# Altium schematic symbol library FPGA_Xilinx_Virtex7.SchLib: 34 symbols (part 17 of 26)
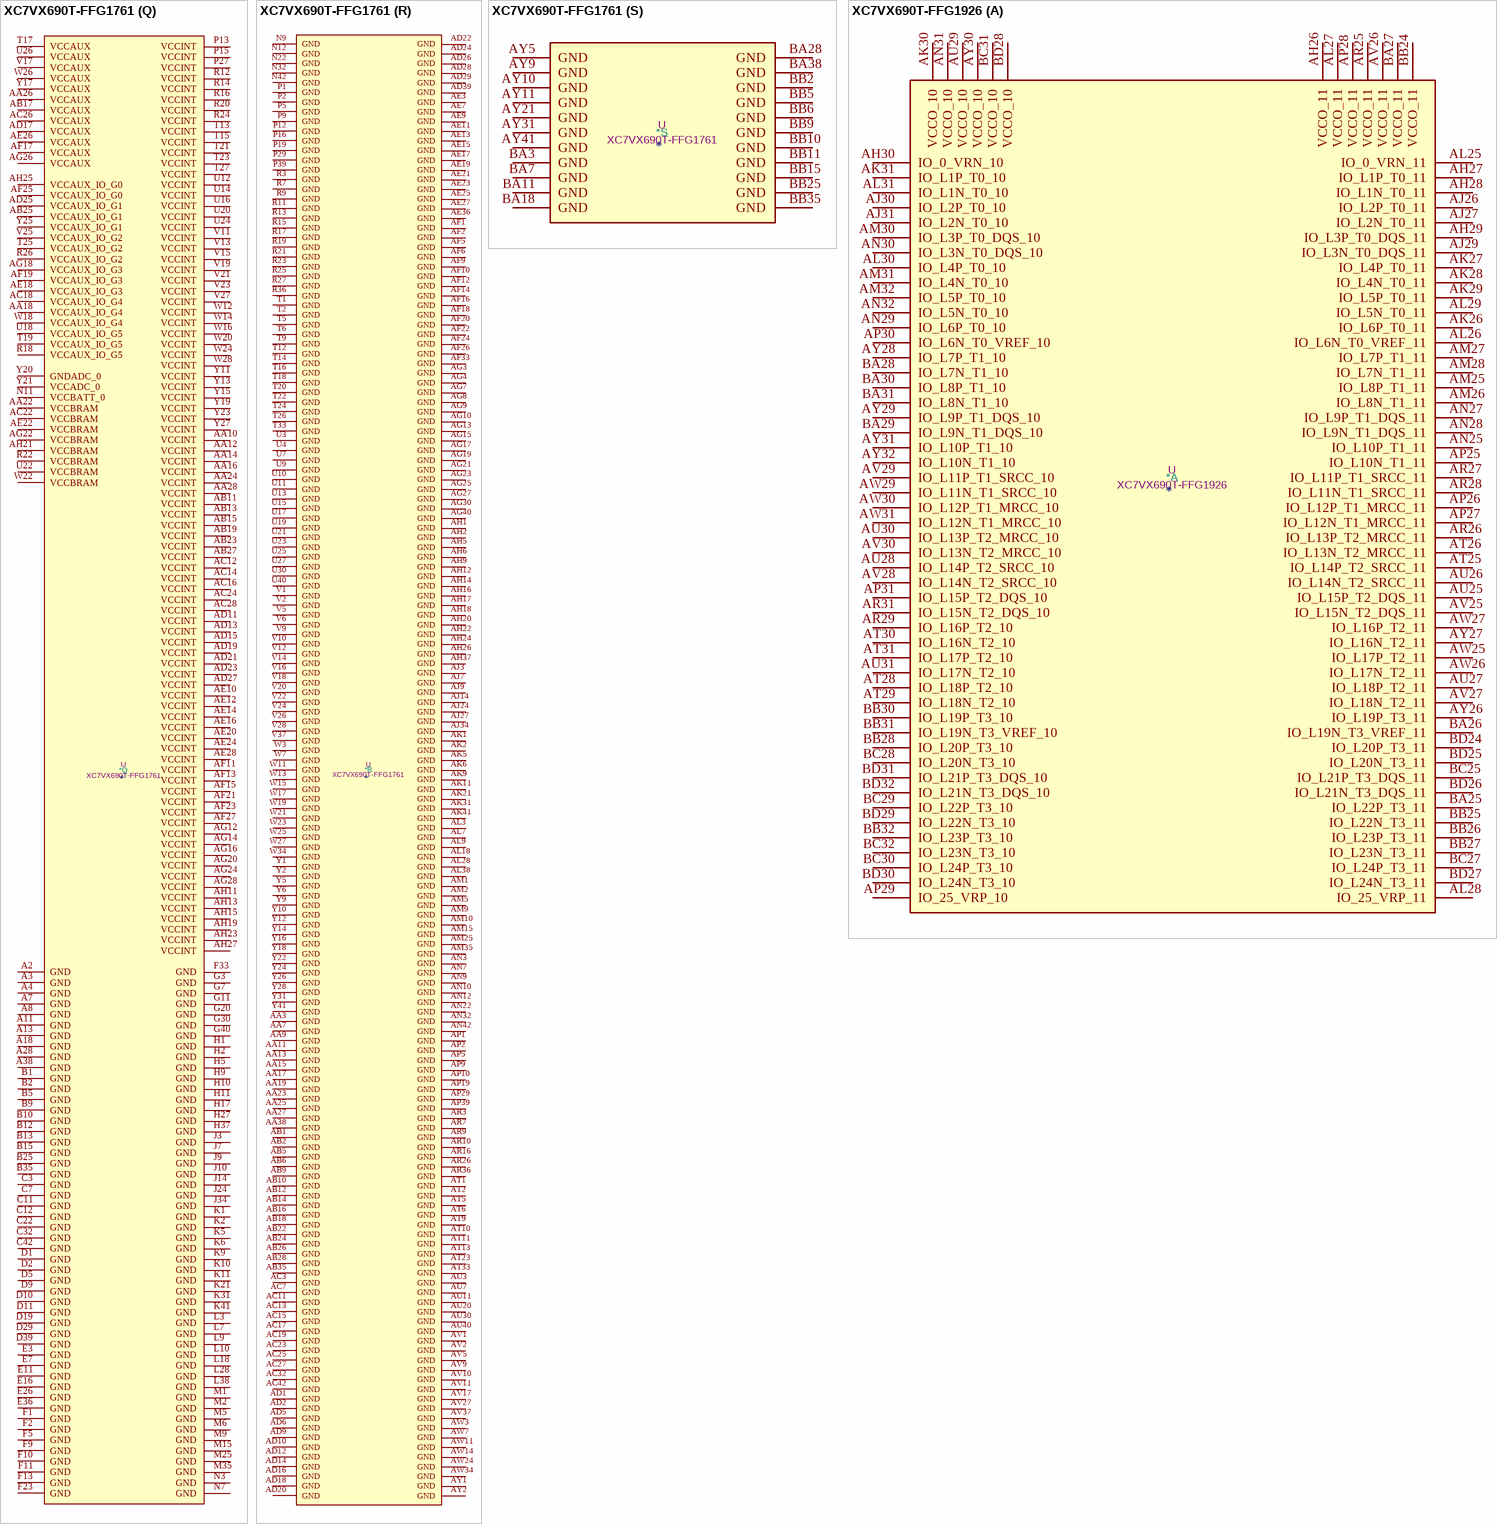
[diagram p188: symbols XC7VX690T-FFG1761 to XC7VX690T-FFG1926]

## XC7VX690T-FFG1761
designator *  value XC7VX690T-FFG1761  Reference: U
Virtex 7 XT 690 XC7VX690T-FFG1761; ki_keywords: FPGA; Description_: Virtex 7 XT 690 XC7VX690T-FFG1761
part A pins: AJ25 IO_L24P_T3_12, AJ26 IO_L24N_T3_12, AK24 IO_L22P_T3_12, AK25 IO_L22N_T3_12, AK26 VCCO_12, AK27 IO_L20P_T3_12, AL25 IO_L23P_T3_12, AL26 IO_L23N_T3_12, AL27 IO_L20N_T3_12, AM26 IO_L21P_T3_DQS_12, AM27 IO_L21N_T3_DQS_12, AM28 IO_L19P_T3_12, AM29 IO_L19N_T3_VREF_12, AN25 IO_L18P_T2_12, AN26 IO_L18N_T2_12, AN27 VCCO_12, AN28 IO_L15P_T2_DQS_12, AN29 IO_0_VRN_12, AN30 IO_L21P_T3_DQS_13, AN31 IO_L23P_T3_13, AP25 IO_L17P_T2_12, AP26 IO_25_VRP_12, AP27 IO_L14P_T2_SRCC_12, AP28 IO_L15N_T2_DQS_12, AP30 IO_L21N_T3_DQS_13, AP31 IO_L23N_T3_13, AP32 IO_L22P_T3_13, AP33 IO_L24P_T3_13, AP34 VCCO_13, AR25 IO_L17N_T2_12, AR27 IO_L13P_T2_MRCC_12, AR28 IO_L14N_T2_SRCC_12, AR29 IO_L8P_T1_12, AR30 IO_L19P_T3_13, AR31 VCCO_13, AR32 IO_L22N_T3_13, AR33 IO_L24N_T3_13, AR34 IO_L10P_T1_13, AR35 IO_0_VRN_13, AT25 IO_L16P_T2_12, AT26 IO_L16N_T2_12, AT27 IO_L13N_T2_MRCC_12, AT28 VCCO_12, AT29 IO_L8N_T1_12, AT30 IO_L19N_T3_VREF_13, AT31 IO_25_VRP_13, AT32 IO_L9P_T1_DQS_13, AT34 IO_L7P_T1_13, AT35 IO_L10N_T1_13, AT36 IO_L8P_T1_13, AU25 VCCO_12, AU26 IO_L12P_T1_MRCC_12, AU27 IO_L12N_T1_MRCC_12, AU28 IO_L11P_T1_SRCC_12, AU29 IO_L2P_T0_12, AU31 IO_L20P_T3_13, AU32 IO_L11P_T1_SRCC_13, AU33 IO_L9N_T1_DQS_13, AU34 IO_L7N_T1_13, AU35 VCCO_13, AU36 IO_L8N_T1_13, AV25 IO_L9P_T1_DQS_12, AV26 IO_L9N_T1_DQS_12, AV28 IO_L11N_T1_SRCC_12, AV29 IO_L2N_T0_12, AV30 IO_L18P_T2_13, AV31 IO_L20N_T3_13, AV32 VCCO_13, AV33 IO_L11N_T1_SRCC_13, AV34 IO_L13P_T2_MRCC_13, AV35 IO_L13N_T2_MRCC_13, AV36 IO_L2P_T0_13, AW25 IO_L7P_T1_12, AW26 IO_L7N_T1_12, AW27 IO_L10P_T1_12, AW28 IO_L10N_T1_12, AW29 VCCO_12, AW30 IO_L16P_T2_13, AW31 IO_L18N_T2_13, AW32 IO_L12P_T1_MRCC_13, AW33 IO_L12N_T1_MRCC_13, AW35 IO_L6P_T0_13, AW36 IO_L2N_T0_13, AY26 VCCO_12, AY27 IO_L1P_T0_12, AY28 IO_L1N_T0_12, AY29 IO_L6P_T0_12, AY30 IO_L16N_T2_13, AY32 IO_L14P_T2_SRCC_13, AY33 IO_L14N_T2_SRCC_13, AY34 IO_L1P_T0_13, AY35 IO_L6N_T0_VREF_13, AY36 VCCO_13, BA26 IO_L3P_T0_DQS_12, BA27 IO_L3N_T0_DQS_12, BA29 IO_L6N_T0_VREF_12, BA30 IO_L17P_T2_13, BA31 IO_L15P_T2_DQS_13, BA32 IO_L15N_T2_DQS_13, BA33 VCCO_13, BA34 IO_L3P_T0_DQS_13, BA35 IO_L1N_T0_13, BA36 IO_L4P_T0_13, BB26 IO_L5P_T0_12, BB27 IO_L5N_T0_12, BB28 IO_L4P_T0_12, BB29 IO_L4N_T0_12, BB30 VCCO_13, BB31 IO_L17N_T2_13, BB32 IO_L5P_T0_13, BB33 IO_L5N_T0_13, BB34 IO_L3N_T0_DQS_13, BB36 IO_L4N_T0_13
part B pins: AF28 VCCO_14, AF29 IO_L21P_T3_DQS_14, AF30 IO_L23P_T3_A03_D19_14, AG29 IO_L21N_T3_DQS_A06_D22_14, AG31 IO_L23N_T3_A02_D18_14, AG32 IO_25_VRP_14, AG33 IO_L7P_T1_D09_14, AH28 IO_L24P_T3_A01_D17_14, AH29 IO_L19P_T3_A10_D26_14, AH30 IO_L19N_T3_A09_D25_VREF_14, AH31 IO_L9P_T1_DQS_14, AH32 VCCO_14, AH33 IO_L7N_T1_D10_14, AH34 IO_L10P_T1_D14_14, AH35 IO_0_VRN_14, AJ28 IO_L24N_T3_A00_D16_14, AJ29 VCCO_14, AJ30 IO_L20P_T3_A08_D24_14, AJ31 IO_L9N_T1_DQS_D13_14, AJ32 IO_L13P_T2_MRCC_14, AJ33 IO_L11P_T1_SRCC_14, AJ35 IO_L10N_T1_D15_14, AJ36 IO_L2P_T0_D02_14, AJ37 IO_L2N_T0_D03_14, AK28 IO_L22P_T3_A05_D21_14, AK29 IO_L22N_T3_A04_D20_14, AK30 IO_L20N_T3_A07_D23_14, AK32 IO_L13N_T2_MRCC_14, AK33 IO_L11N_T1_SRCC_14, AK34 IO_L12P_T1_MRCC_14, AK35 IO_L8P_T1_D11_14, AK36 VCCO_14, AK37 IO_L4P_T0_D04_14, AL29 IO_L18P_T2_A12_D28_14, AL30 IO_L18N_T2_A11_D27_14, AL31 IO_L14P_T2_SRCC_14, AL32 IO_L14N_T2_SRCC_14, AL33 VCCO_14, AL34 IO_L12N_T1_MRCC_14, AL35 IO_L8N_T1_D12_14, AL36 IO_L6P_T0_FCS_B_14, AL37 IO_L4N_T0_D05_14, AM30 VCCO_14, AM31 IO_L16P_T2_CSI_B_14, AM32 IO_L16N_T2_A15_D31_14, AM33 IO_L17P_T2_A14_D30_14, AM34 IO_L15P_T2_DQS_RDWR_B_14, AM36 IO_L1P_T0_D00_MOSI_14, AM37 IO_L6N_T0_D08_VREF_14, AM38 IO_0_VRN_15, AM39 IO_L6P_T0_15, AM40 VCCO_15, AM41 IO_L2P_T0_AD8P_15, AM42 IO_L2N_T0_AD8N_15, AN33 IO_L17N_T2_A13_D29_14, AN34 IO_L15N_T2_DQS_DOUT_CSO_B_14, AN35 IO_L5P_T0_D06_14, AN36 IO_L1N_T0_D01_DIN_14, AN37 VCCO_14, AN38 IO_L1P_T0_AD0P_15, AN39 IO_L6N_T0_VREF_15, AN40 IO_L4P_T0_15, AN41 IO_L4N_T0_15, AP35 IO_L5N_T0_D07_14, AP36 IO_L3P_T0_DQS_PUDC_B_14, AP37 IO_L3N_T0_DQS_EMCCLK_14, AP38 IO_L1N_T0_AD0N_15, AP40 IO_L7P_T1_AD2P_15, AP41 IO_L8P_T1_AD10P_15, AP42 IO_L8N_T1_AD10N_15, AR37 IO_L5P_T0_AD9P_15, AR38 IO_L3P_T0_DQS_AD1P_15, AR39 IO_L3N_T0_DQS_AD1N_15, AR40 IO_L7N_T1_AD2N_15, AR41 VCCO_15, AR42 IO_L10P_T1_AD11P_15, AT37 IO_L5N_T0_AD9N_15, AT38 VCCO_15, AT39 IO_L9P_T1_DQS_AD3P_15, AT40 IO_L9N_T1_DQS_AD3N_15, AT41 IO_L20P_T3_A20_15, AT42 IO_L10N_T1_AD11N_15, AU37 IO_25_VRP_15, AU38 IO_L12P_T1_MRCC_15, AU39 IO_L11P_T1_SRCC_15, AU41 IO_L22P_T3_A17_15, AU42 IO_L20N_T3_A19_15, AV38 IO_L12N_T1_MRCC_15, AV39 IO_L11N_T1_SRCC_15, AV40 IO_L13P_T2_MRCC_15, AV41 IO_L22N_T3_A16_15, AV42 VCCO_15, AW37 IO_L15P_T2_DQS_15, AW38 IO_L17P_T2_A26_15, AW39 VCCO_15, AW40 IO_L13N_T2_MRCC_15, AW41 IO_L24P_T3_RS1_15, AW42 IO_L24N_T3_RS0_15, AY37 IO_L15N_T2_DQS_ADV_B_15, AY38 IO_L17N_T2_A25_15, AY39 IO_L14P_T2_SRCC_15, AY40 IO_L14N_T2_SRCC_15, AY42 IO_L21P_T3_DQS_15, BA37 IO_L16P_T2_A28_15, BA39 IO_L19P_T3_A22_15, BA40 IO_L19N_T3_A21_VREF_15, BA41 IO_L23P_T3_FOE_B_15, BA42 IO_L21N_T3_DQS_A18_15, BB37 IO_L16N_T2_A27_15, BB38 IO_L18P_T2_A24_15, BB39 IO_L18N_T2_A23_15, BB40 VCCO_15, BB41 IO_L23N_T3_FWE_B_15
part C pins: AA29 IO_L23P_T3_16, AA30 IO_L23N_T3_16, AA31 IO_L21P_T3_DQS_16, AA32 IO_L21N_T3_DQS_16, AA33 VCCO_16, AA34 IO_L10P_T1_16, AA35 IO_L10N_T1_16, AA36 IO_L8N_T1_16, AA37 IO_L7N_T1_16, AA39 IO_L3N_T0_DQS_17, AA40 IO_L6P_T0_17, AA41 IO_L6N_T0_VREF_17, AA42 IO_L4N_T0_17, AB29 IO_L24P_T3_16, AB30 VCCO_16, AB31 IO_L11P_T1_SRCC_16, AB32 IO_L11N_T1_SRCC_16, AB33 IO_L12P_T1_MRCC_16, AB34 IO_25_VRP_16, AB36 IO_L9P_T1_DQS_16, AB37 IO_L9N_T1_DQS_16, AB38 IO_L5P_T0_17, AB39 IO_L5N_T0_17, AB40 VCCO_17, AB41 IO_L1P_T0_17, AB42 IO_L1N_T0_17, AC29 IO_L24N_T3_16, AC30 IO_L22P_T3_16, AC31 IO_L20P_T3_16, AC33 IO_L12N_T1_MRCC_16, AC34 IO_L14P_T2_SRCC_16, AC35 IO_L5P_T0_16, AC36 IO_L5N_T0_16, AC37 VCCO_17, AC38 IO_L7P_T1_17, AC39 IO_L7N_T1_17, AC40 IO_L10P_T1_17, AC41 IO_L10N_T1_17, AD30 IO_L22N_T3_16, AD31 IO_L20N_T3_16, AD32 IO_L13P_T2_MRCC_16, AD33 IO_L13N_T2_MRCC_16, AD34 VCCO_16, AD35 IO_L14N_T2_SRCC_16, AD36 IO_L4P_T0_16, AD37 IO_L4N_T0_16, AD38 IO_L9P_T1_DQS_17, AD40 IO_L12P_T1_MRCC_17, AD41 IO_L12N_T1_MRCC_17, AD42 IO_L8P_T1_17, AE29 IO_L18P_T2_16, AE30 IO_L18N_T2_16, AE31 VCCO_16, AE32 IO_L15P_T2_DQS_16, AE33 IO_L15N_T2_DQS_16, AE34 IO_L17P_T2_16, AE35 IO_L17N_T2_16, AE37 IO_L2P_T0_16, AE38 IO_L9N_T1_DQS_17, AE39 IO_L11P_T1_SRCC_17, AE40 IO_L11N_T1_SRCC_17, AE41 VCCO_17, AE42 IO_L8N_T1_17, AF31 IO_L16P_T2_16, AF32 IO_L16N_T2_16, AF34 IO_L3P_T0_DQS_16, AF35 IO_L1P_T0_16, AF36 IO_L1N_T0_16, AF37 IO_L2N_T0_16, AF38 VCCO_17, AF39 IO_L13P_T2_MRCC_17, AF40 IO_L13N_T2_MRCC_17, AF41 IO_L14P_T2_SRCC_17, AF42 IO_L16P_T2_17, AG34 IO_L3N_T0_DQS_16, AG35 VCCO_16, AG36 IO_L6P_T0_16, AG37 IO_25_VRP_17, AG38 IO_L17P_T2_17, AG39 IO_L15P_T2_DQS_17, AG41 IO_L14N_T2_SRCC_17, AG42 IO_L16N_T2_17, AH36 IO_L6N_T0_VREF_16, AH38 IO_L17N_T2_17, AH39 IO_L15N_T2_DQS_17, AH40 IO_L20P_T3_17, AH41 IO_L20N_T3_17, AH42 VCCO_17, AJ38 IO_L18P_T2_17, AJ39 VCCO_17, AJ40 IO_L22P_T3_17, AJ41 IO_L22N_T3_17, AJ42 IO_L24P_T3_17, AK38 IO_L18N_T2_17, AK39 IO_L23P_T3_17, AK40 IO_L19P_T3_17, AK42 IO_L24N_T3_17, AL39 IO_L23N_T3_17, AL40 IO_L19N_T3_VREF_17, AL41 IO_L21P_T3_DQS_17, AL42 IO_L21N_T3_DQS_17, W40 IO_L2P_T0_17, Y32 IO_L19P_T3_16, Y33 IO_L19N_T3_VREF_16, Y34 IO_0_VRN_16, Y35 IO_L8P_T1_16, Y36 VCCO_16, Y37 IO_L7P_T1_16, Y38 IO_0_VRN_17, Y39 IO_L3P_T0_DQS_17, Y40 IO_L2N_T0_17, Y42 IO_L4P_T0_17
part D pins: A40 IO_L2P_T0_19, A41 IO_L2N_T0_19, B40 VCCO_19, B41 IO_L4P_T0_19, B42 IO_L4N_T0_19, C40 IO_L6P_T0_19, C41 IO_L6N_T0_VREF_19, D40 IO_L1N_T0_19, D41 IO_L3P_T0_DQS_19, D42 IO_L3N_T0_DQS_19, E40 IO_L1P_T0_19, E41 VCCO_19, E42 IO_L5N_T0_19, F40 IO_L10P_T1_19, F41 IO_L10N_T1_19, F42 IO_L5P_T0_19, G39 IO_L8N_T1_19, G41 IO_L9P_T1_DQS_19, G42 IO_L9N_T1_DQS_19, H39 IO_L8P_T1_19, H40 IO_L7P_T1_19, H41 IO_L7N_T1_19, H42 VCCO_19, J39 VCCO_19, J40 IO_L11P_T1_SRCC_19, J41 IO_L11N_T1_SRCC_19, J42 IO_L15N_T2_DQS_19, K37 IO_L17P_T2_19, K38 IO_L17N_T2_19, K39 IO_L12P_T1_MRCC_19, K40 IO_L12N_T1_MRCC_19, K42 IO_L15P_T2_DQS_19, L36 IO_0_VRN_19, L37 IO_L18N_T2_19, L39 IO_L13P_T2_MRCC_19, L40 IO_L13N_T2_MRCC_19, L41 IO_L14N_T2_SRCC_19, L42 IO_L16N_T2_19, M36 IO_L18P_T2_19, M37 IO_L20P_T3_19, M38 IO_L20N_T3_19, M39 IO_L22N_T3_19, M40 VCCO_19, M41 IO_L14P_T2_SRCC_19, M42 IO_L16P_T2_19, N33 IO_L2P_T0_18, N34 IO_L2N_T0_18, N35 IO_0_VRN_18, N36 IO_25_VRP_19, N37 VCCO_19, N38 IO_L22P_T3_19, N39 IO_L24P_T3_19, N40 IO_L24N_T3_19, N41 IO_L19N_T3_VREF_19, P32 IO_L6P_T0_18, P33 IO_L6N_T0_VREF_18, P34 VCCO_18, P35 IO_L4P_T0_18, P36 IO_L4N_T0_18, P37 IO_L8P_T1_18, P38 IO_L8N_T1_18, P40 IO_L23N_T3_19, P41 IO_L19P_T3_19, P42 IO_L21N_T3_DQS_19, R32 IO_L5N_T0_18, R33 IO_L3P_T0_DQS_18, R34 IO_L3N_T0_DQS_18, R35 IO_L1N_T0_18, R37 IO_L7N_T1_18, R38 IO_L10P_T1_18, R39 IO_L10N_T1_18, R40 IO_L23P_T3_19, R41 VCCO_19, R42 IO_L21P_T3_DQS_19, T32 IO_L5P_T0_18, T34 IO_L1P_T0_18, T35 IO_L9N_T1_DQS_18, T36 IO_L7P_T1_18, T37 IO_L13N_T2_MRCC_18, T38 VCCO_18, T39 IO_L12N_T1_MRCC_18, T40 IO_L20P_T3_18, T41 IO_L20N_T3_18, T42 IO_L22N_T3_18, U32 IO_L17P_T2_18, U33 IO_L17N_T2_18, U34 IO_L9P_T1_DQS_18, U35 VCCO_18, U36 IO_L13P_T2_MRCC_18, U37 IO_L11P_T1_SRCC_18, U38 IO_L11N_T1_SRCC_18, U39 IO_L12P_T1_MRCC_18, U41 IO_L22P_T3_18, U42 IO_L24N_T3_18, V32 VCCO_18, V33 IO_L15P_T2_DQS_18, V34 IO_L15N_T2_DQS_18, V35 IO_L14P_T2_SRCC_18, V36 IO_L14N_T2_SRCC_18, V38 IO_L23N_T3_18, V39 IO_L19P_T3_18, V40 IO_L19N_T3_VREF_18, V41 IO_L24P_T3_18, V42 VCCO_18, W32 IO_L18P_T2_18, W33 IO_L18N_T2_18, W35 IO_25_VRP_18, W36 IO_L16P_T2_18, W37 IO_L16N_T2_18, W38 IO_L23P_T3_18, W39 VCCO_18, W41 IO_L21P_T3_DQS_18, W42 IO_L21N_T3_DQS_18
part E pins: AJ12 IO_L4N_T0_31, AJ13 IO_L4P_T0_31, AJ15 IO_L1N_T0_31, AJ16 IO_L1P_T0_31, AJ17 IO_L6N_T0_VREF_32, AJ18 IO_L6P_T0_32, AJ19 VCCO_32, AK12 IO_L6P_T0_31, AK13 IO_L2N_T0_31, AK14 IO_L2P_T0_31, AK15 IO_L3P_T0_DQS_31, AK16 VCCO_31, AK17 IO_L2P_T0_32, AK18 IO_L4N_T0_32, AK19 IO_L4P_T0_32, AL12 IO_L6N_T0_VREF_31, AL13 VCCO_31, AL14 IO_L3N_T0_DQS_31, AL15 IO_L5N_T0_31, AL16 IO_L5P_T0_31, AL17 IO_L2N_T0_32, AL19 IO_L1P_T0_32, AM11 IO_L8N_T1_31, AM12 IO_L8P_T1_31, AM13 IO_L7P_T1_31, AM14 IO_0_VRN_31, AM16 IO_L5P_T0_32, AM17 IO_L3N_T0_DQS_32, AM18 IO_L3P_T0_DQS_32, AM19 IO_L1N_T0_32, AN11 IO_L10P_T1_31, AN13 IO_L7N_T1_31, AN14 IO_L9N_T1_DQS_31, AN15 IO_L9P_T1_DQS_31, AN16 IO_L5N_T0_32, AN17 VCCO_32, AN18 IO_L9N_T1_DQS_32, AN19 IO_L9P_T1_DQS_32, AP11 IO_L10N_T1_31, AP12 IO_L15P_T2_DQS_31, AP13 IO_L12P_T1_MRCC_31, AP14 VCCO_31, AP15 IO_25_VRP_31, AP16 IO_25_VRP_32, AP17 IO_L7N_T1_32, AP18 IO_L7P_T1_32, AP20 IO_L8P_T1_32, AR11 VCCO_31, AR12 IO_L15N_T2_DQS_31, AR13 IO_L12N_T1_MRCC_31, AR14 IO_L11P_T1_SRCC_31, AR15 IO_L16P_T2_31, AR17 IO_L10N_T1_32, AR18 IO_L10P_T1_32, AR19 IO_L8N_T1_32, AR20 IO_0_VRN_32, AT12 IO_L17P_T2_31, AT14 IO_L11N_T1_SRCC_31, AT15 IO_L16N_T2_31, AT16 IO_L18P_T2_32, AT17 IO_L12P_T1_MRCC_32, AT18 VCCO_32, AT19 IO_L16N_T2_32, AT20 IO_L16P_T2_32, AU12 IO_L17N_T2_31, AU13 IO_L13N_T2_MRCC_31, AU14 IO_L13P_T2_MRCC_31, AU15 VCCO_31, AU16 IO_L18N_T2_32, AU17 IO_L12N_T1_MRCC_32, AU18 IO_L11P_T1_SRCC_32, AU19 IO_L15P_T2_DQS_32, AV12 VCCO_31, AV13 IO_L14P_T2_SRCC_31, AV14 IO_L18N_T2_31, AV15 IO_L18P_T2_31, AV16 IO_L17P_T2_32, AV18 IO_L11N_T1_SRCC_32, AV19 IO_L15N_T2_DQS_32, AV20 IO_L20P_T3_32, AW12 IO_L20P_T3_31, AW13 IO_L14N_T2_SRCC_31, AW15 IO_L19P_T3_31, AW16 IO_L17N_T2_32, AW17 IO_L14N_T2_SRCC_32, AW18 IO_L14P_T2_SRCC_32, AW19 VCCO_32, AW20 IO_L20N_T3_32, AY12 IO_L20N_T3_31, AY13 IO_L22N_T3_31, AY14 IO_L22P_T3_31, AY15 IO_L19N_T3_VREF_31, AY16 VCCO_32, AY17 IO_L13N_T2_MRCC_32, AY18 IO_L13P_T2_MRCC_32, AY19 IO_L24P_T3_32, AY20 IO_L22P_T3_32, BA12 IO_L24P_T3_31, BA13 VCCO_31, BA14 IO_L21N_T3_DQS_31, BA15 IO_L21P_T3_DQS_31, BA16 IO_L23P_T3_32, BA17 IO_L21P_T3_DQS_32, BA19 IO_L24N_T3_32, BA20 IO_L22N_T3_32, BB12 IO_L24N_T3_31, BB13 IO_L23N_T3_31, BB14 IO_L23P_T3_31, BB16 IO_L23N_T3_32, BB17 IO_L21N_T3_DQS_32, BB18 IO_L19N_T3_VREF_32, BB19 IO_L19P_T3_32, BB20 VCCO_32
part F pins: AJ20 IO_L5N_T0_33, AJ21 IO_L5P_T0_33, AJ22 IO_L3P_T0_DQS_33, AJ23 IO_L1P_T0_33, AK20 IO_L2P_T0_33, AK22 IO_L3N_T0_DQS_33, AK23 IO_L1N_T0_33, AL20 IO_L2N_T0_33, AL21 IO_L4P_T0_33, AL22 IO_L6P_T0_33, AL23 VCCO_33, AL24 IO_0_VRN_33, AM20 VCCO_33, AM21 IO_L4N_T0_33, AM22 IO_L6N_T0_VREF_33, AM23 IO_L8P_T1_33, AM24 IO_L7P_T1_33, AN20 IO_25_VRP_33, AN21 IO_L10P_T1_33, AN23 IO_L8N_T1_33, AN24 IO_L7N_T1_33, AP21 IO_L10N_T1_33, AP22 IO_L9N_T1_DQS_33, AP23 IO_L9P_T1_DQS_33, AP24 VCCO_33, AR21 VCCO_33, AR22 IO_L11N_T1_SRCC_33, AR23 IO_L11P_T1_SRCC_33, AR24 IO_L16P_T2_33, AT21 IO_L15P_T2_DQS_33, AT22 IO_L12P_T1_MRCC_33, AT24 IO_L16N_T2_33, AU21 IO_L15N_T2_DQS_33, AU22 IO_L12N_T1_MRCC_33, AU23 IO_L13P_T2_MRCC_33, AU24 IO_L18P_T2_33, AV21 IO_L17P_T2_33, AV22 VCCO_33, AV23 IO_L13N_T2_MRCC_33, AV24 IO_L18N_T2_33, AW21 IO_L17N_T2_33, AW22 IO_L14N_T2_SRCC_33, AW23 IO_L14P_T2_SRCC_33, AY22 IO_L19N_T3_VREF_33, AY23 IO_L19P_T3_33, AY24 IO_L22P_T3_33, AY25 IO_L20P_T3_33, BA21 IO_L23P_T3_33, BA22 IO_L21P_T3_DQS_33, BA23 VCCO_33, BA24 IO_L22N_T3_33, BA25 IO_L20N_T3_33, BB21 IO_L23N_T3_33, BB22 IO_L21N_T3_DQS_33, BB23 IO_L24N_T3_33, BB24 IO_L24P_T3_33, H30 IO_L8N_T1_34, H31 IO_L10N_T1_34, H32 VCCO_34, H34 IO_L6P_T0_34, H35 IO_L6N_T0_VREF_34, J30 IO_L8P_T1_34, J31 IO_L10P_T1_34, J32 IO_L2P_T0_34, J33 IO_L2N_T0_34, J35 IO_L1N_T0_34, K29 IO_L7P_T1_34, K30 IO_L7N_T1_34, K32 IO_L12N_T1_MRCC_34, K33 IO_L3P_T0_DQS_34, K34 IO_L3N_T0_DQS_34, K35 IO_L1P_T0_34, L29 IO_L9P_T1_DQS_34, L30 IO_L9N_T1_DQS_34, L31 IO_L12P_T1_MRCC_34, L32 IO_L11N_T1_SRCC_34, L33 VCCO_34, L34 IO_L4P_T0_34, L35 IO_L4N_T0_34, M28 IO_L15P_T2_DQS_34, M29 IO_L15N_T2_DQS_34, M30 VCCO_34, M31 IO_L13N_T2_MRCC_34, M32 IO_L11P_T1_SRCC_34, M33 IO_L5P_T0_34, M34 IO_L5N_T0_34, N28 IO_L17P_T2_34, N29 IO_L17N_T2_34, N30 IO_L13P_T2_MRCC_34, N31 IO_L14N_T2_SRCC_34, P28 IO_L16N_T2_34, P30 IO_L14P_T2_SRCC_34, P31 IO_L18N_T2_34, R28 IO_L16P_T2_34, R29 IO_0_VRN_34, R30 IO_L18P_T2_34, R31 VCCO_34, T28 VCCO_34, T29 IO_L21P_T3_DQS_34, T30 IO_L21N_T3_DQS_34, T31 IO_L19N_T3_VREF_34, U28 IO_25_VRP_34, U29 IO_L23N_T3_34, U31 IO_L19P_T3_34, V29 IO_L23P_T3_34, V30 IO_L20P_T3_34, V31 IO_L20N_T3_34, W29 VCCO_34, W30 IO_L22P_T3_34, W31 IO_L22N_T3_34, Y29 IO_L24P_T3_34, Y30 IO_L24N_T3_34
part G pins: A33 VCCO_35, A34 IO_L2N_T0_AD12N_35, A35 IO_L4P_T0_35, A36 IO_L4N_T0_35, A37 IO_L1N_T0_AD4N_35, A39 IO_L3N_T0_DQS_AD5N_35, B32 IO_L8P_T1_AD14P_35, B33 IO_L8N_T1_AD14N_35, B34 IO_L2P_T0_AD12P_35, B36 IO_L1P_T0_AD4P_35, B37 IO_L6P_T0_35, B38 IO_L6N_T0_VREF_35, B39 IO_L3P_T0_DQS_AD5P_35, C33 IO_L10P_T1_AD15P_35, C34 IO_L10N_T1_AD15N_35, C35 IO_L12P_T1_MRCC_35, C36 IO_L12N_T1_MRCC_35, C37 VCCO_35, C38 IO_L5P_T0_AD13P_35, C39 IO_L5N_T0_AD13N_35, D32 IO_L7N_T1_AD6N_35, D33 IO_L9N_T1_DQS_AD7N_35, D34 VCCO_35, D35 IO_L11P_T1_SRCC_35, D36 IO_L11N_T1_SRCC_35, D37 IO_L14P_T2_SRCC_35, D38 IO_L14N_T2_SRCC_35, E31 VCCO_35, E32 IO_L7P_T1_AD6P_35, E33 IO_L9P_T1_DQS_AD7P_35, E34 IO_L13P_T2_MRCC_35, E35 IO_L13N_T2_MRCC_35, E37 IO_L19P_T3_35, E38 IO_L19N_T3_VREF_35, E39 IO_L21N_T3_DQS_35, F32 IO_L15N_T2_DQS_35, F34 IO_L17P_T2_35, F35 IO_L17N_T2_35, F36 IO_L16P_T2_35, F37 IO_L16N_T2_35, F38 VCCO_35, F39 IO_L21P_T3_DQS_35, G21 IO_L4P_T0_36, G22 IO_L4N_T0_36, G23 IO_L6N_T0_VREF_36, G24 IO_L1N_T0_36, G25 VCCO_36, G26 IO_L5P_T0_36, G27 IO_L5N_T0_36, G28 IO_L7P_T1_36, G29 IO_L7N_T1_36, G31 IO_0_VRN_35, G32 IO_L15P_T2_DQS_35, G33 IO_L18N_T2_35, G34 IO_25_VRP_35, G35 VCCO_35, G36 IO_L20P_T3_35, G37 IO_L20N_T3_35, G38 IO_L23N_T3_35, H21 IO_L2N_T0_36, H22 VCCO_36, H23 IO_L6P_T0_36, H24 IO_L1P_T0_36, H25 IO_L3P_T0_DQS_36, H26 IO_L3N_T0_DQS_36, H28 IO_L9P_T1_DQS_36, H29 IO_L9N_T1_DQS_36, H33 IO_L18P_T2_35, H36 IO_L24N_T3_35, H38 IO_L23P_T3_35, J21 IO_L2P_T0_36, J22 IO_L17N_T2_36, J23 IO_L14N_T2_SRCC_36, J25 IO_L12P_T1_MRCC_36, J26 IO_L12N_T1_MRCC_36, J27 IO_L10N_T1_36, J28 IO_L8N_T1_36, J29 VCCO_36, J36 IO_L24P_T3_35, J37 IO_L22P_T3_35, J38 IO_L22N_T3_35, K22 IO_L17P_T2_36, K23 IO_L14P_T2_SRCC_36, K24 IO_L11P_T1_SRCC_36, K25 IO_L11N_T1_SRCC_36, K26 VCCO_36, K27 IO_L10P_T1_36, K28 IO_L8P_T1_36, K36 VCCO_35, L21 IO_L18N_T2_36, L22 IO_L15N_T2_DQS_36, L23 VCCO_36, L24 IO_L13N_T2_MRCC_36, L25 IO_L16P_T2_36, L26 IO_L16N_T2_36, L27 IO_L24N_T3_36, M21 IO_L18P_T2_36, M22 IO_L15P_T2_DQS_36, M23 IO_0_VRN_36, M24 IO_L13P_T2_MRCC_36, M26 IO_25_VRP_36, M27 IO_L24P_T3_36, N21 IO_L19N_T3_VREF_36, N23 IO_L23P_T3_36, N24 IO_L23N_T3_36, N25 IO_L22P_T3_36, N26 IO_L22N_T3_36, N27 VCCO_36, P21 IO_L19P_T3_36, P22 IO_L21P_T3_DQS_36, P23 IO_L21N_T3_DQS_36, P24 VCCO_36, P25 IO_L20P_T3_36, P26 IO_L20N_T3_36
part H pins: A15 IO_L2N_T0_38, A16 IO_L2P_T0_38, A17 IO_L4N_T0_38, A19 IO_L3N_T0_DQS_38, A20 IO_L3P_T0_DQS_38, A21 IO_L5N_T0_38, A22 IO_L2N_T0_37, A23 VCCO_37, A24 IO_L1P_T0_37, A25 IO_L1N_T0_37, A26 IO_L3P_T0_DQS_37, A27 IO_L3N_T0_DQS_37, A29 IO_L17P_T2_37, A30 IO_L17N_T2_37, A31 IO_L16P_T2_37, A32 IO_L16N_T2_37, B17 IO_L4P_T0_38, B18 IO_L6N_T0_VREF_38, B19 IO_L1N_T0_38, B20 VCCO_38, B21 IO_L5P_T0_38, B22 IO_L2P_T0_37, B23 IO_L4N_T0_37, B24 IO_L6N_T0_VREF_37, B26 IO_L5P_T0_37, B27 IO_L5N_T0_37, B28 IO_L15P_T2_DQS_37, B29 IO_L15N_T2_DQS_37, B30 VCCO_37, B31 IO_L18N_T2_37, C17 VCCO_38, C18 IO_L6P_T0_38, C19 IO_L1P_T0_38, C20 IO_L7N_T1_38, C21 IO_L9N_T1_DQS_38, C23 IO_L4P_T0_37, C24 IO_L6P_T0_37, C25 IO_L12P_T1_MRCC_37, C26 IO_L12N_T1_MRCC_37, C27 VCCO_37, C28 IO_L14P_T2_SRCC_37, C29 IO_L14N_T2_SRCC_37, C30 IO_L20N_T3_37, C31 IO_L18P_T2_37, D17 IO_L10N_T1_38, D18 IO_L10P_T1_38, D20 IO_L7P_T1_38, D21 IO_L9P_T1_DQS_38, D22 IO_L10P_T1_37, D23 IO_L10N_T1_37, D24 VCCO_37, D25 IO_L11P_T1_SRCC_37, D26 IO_L11N_T1_SRCC_37, D27 IO_L13P_T2_MRCC_37, D28 IO_L13N_T2_MRCC_37, D30 IO_L20P_T3_37, D31 IO_L19N_T3_VREF_37, E17 IO_L8N_T1_38, E18 IO_L12N_T1_MRCC_38, E19 IO_L12P_T1_MRCC_38, E20 IO_L15N_T2_DQS_38, E21 VCCO_37, E22 IO_L8N_T1_37, E23 IO_L7P_T1_37, E24 IO_L7N_T1_37, E25 IO_L9N_T1_DQS_37, E27 IO_L21P_T3_DQS_37, E28 IO_L21N_T3_DQS_37, E29 IO_L22N_T3_37, E30 IO_L19P_T3_37, F17 IO_L8P_T1_38, F18 VCCO_38, F19 IO_L11N_T1_SRCC_38, F20 IO_L15P_T2_DQS_38, F21 IO_0_VRN_37, F22 IO_L8P_T1_37, F24 IO_25_VRP_37, F25 IO_L9P_T1_DQS_37, F26 IO_L23P_T3_37, F27 IO_L23N_T3_37, F28 VCCO_37, F29 IO_L22P_T3_37, F30 IO_L24P_T3_37, F31 IO_L24N_T3_37, G17 IO_L18N_T2_38, G18 IO_L13N_T2_MRCC_38, G19 IO_L11P_T1_SRCC_38, H18 IO_L18P_T2_38, H19 IO_L13P_T2_MRCC_38, H20 IO_L17N_T2_38, J17 IO_L16N_T2_38, J18 IO_L14N_T2_SRCC_38, J19 VCCO_38, J20 IO_L17P_T2_38, K17 IO_L16P_T2_38, K18 IO_0_VRN_38, K19 IO_L14P_T2_SRCC_38, K20 IO_25_VRP_38, L17 IO_L20N_T3_38, L19 IO_L24N_T3_38, L20 IO_L24P_T3_38, M17 IO_L20P_T3_38, M18 IO_L22N_T3_38, M19 IO_L22P_T3_38, M20 VCCO_38, N17 VCCO_38, N18 IO_L21N_T3_DQS_38, N19 IO_L21P_T3_DQS_38, N20 IO_L23N_T3_38, P17 IO_L19N_T3_VREF_38, P18 IO_L19P_T3_38, P20 IO_L23P_T3_38
part I pins: A14 IO_L2N_T0_39, B14 IO_L2P_T0_39, B16 IO_L1N_T0_39, C13 IO_L4N_T0_39, C14 IO_L3N_T0_DQS_39, C15 IO_L3P_T0_DQS_39, C16 IO_L1P_T0_39, D12 IO_L6N_T0_VREF_39, D13 IO_L4P_T0_39, D14 VCCO_39, D15 IO_L5N_T0_39, D16 IO_L5P_T0_39, E12 IO_L6P_T0_39, E13 IO_L8N_T1_39, E14 IO_L8P_T1_39, E15 IO_L7N_T1_39, F12 IO_L10N_T1_39, F14 IO_L11N_T1_SRCC_39, F15 IO_L11P_T1_SRCC_39, F16 IO_L7P_T1_39, G12 IO_L10P_T1_39, G13 IO_L12N_T1_MRCC_39, G14 IO_L12P_T1_MRCC_39, G15 VCCO_39, G16 IO_L9N_T1_DQS_39, H12 VCCO_39, H13 IO_L14N_T2_SRCC_39, H14 IO_L13N_T2_MRCC_39, H15 IO_L13P_T2_MRCC_39, H16 IO_L9P_T1_DQS_39, J11 IO_25_VRP_39, J12 IO_L15N_T2_DQS_39, J13 IO_L14P_T2_SRCC_39, J15 IO_L16N_T2_39, J16 IO_0_VRN_39, K12 IO_L15P_T2_DQS_39, K13 IO_L17N_T2_39, K14 IO_L17P_T2_39, K15 IO_L16P_T2_39, K16 VCCO_39, L11 IO_L19N_T3_VREF_39, L12 IO_L19P_T3_39, L13 VCCO_39, L14 IO_L20N_T3_39, L15 IO_L18N_T2_39, L16 IO_L18P_T2_39, M11 IO_L24N_T3_39, M12 IO_L24P_T3_39, M13 IO_L22N_T3_39, M14 IO_L20P_T3_39, M16 IO_L21N_T3_DQS_39, N13 IO_L22P_T3_39, N14 IO_L23N_T3_39, N15 IO_L23P_T3_39, N16 IO_L21P_T3_DQS_39, P14 VCCO_39
part J pins: AP7 MGTHRXN3_112, AP8 MGTHRXP3_112, AR1 MGTHTXN3_112, AR2 MGTHTXP3_112, AR5 MGTHRXN2_112, AR6 MGTHRXP2_112, AT3 MGTHTXN2_112, AT4 MGTHTXP2_112, AT7 MGTREFCLK0N_112, AT8 MGTREFCLK0P_112, AU1 MGTHTXN1_112, AU2 MGTHTXP1_112, AU5 MGTHRXN1_112, AU6 MGTHRXP1_112, AU9 MGTREFCLK1N_112, AU10 MGTREFCLK1P_112, AV3 MGTHTXN0_112, AV4 MGTHTXP0_112, AV7 MGTHRXN0_112, AV8 MGTHRXP0_112, AW1 MGTHTXN3_111, AW2 MGTHTXP3_111, AW5 MGTHRXN3_111, AW6 MGTHRXP3_111, AW9 MGTREFCLK0N_111, AW10 MGTREFCLK0P_111, AY3 MGTHTXN2_111, AY4 MGTHTXP2_111, AY7 MGTHRXN2_111, AY8 MGTHRXP2_111, BA1 MGTHTXN1_111, BA2 MGTHTXP1_111, BA5 MGTHRXN1_111, BA6 MGTHRXP1_111, BA9 MGTREFCLK1N_111, BA10 MGTREFCLK1P_111, BB3 MGTHTXN0_111, BB4 MGTHTXP0_111, BB7 MGTHRXN0_111, BB8 MGTHRXP0_111
part K pins: AD3 MGTHRXN3_114, AD4 MGTHRXP3_114, AD7 MGTREFCLK0N_114, AD8 MGTREFCLK0P_114, AE5 MGTHRXN2_114, AE6 MGTHRXP2_114, AF3 MGTHRXN1_114, AF4 MGTHRXP1_114, AF7 MGTREFCLK1N_114, AF8 MGTREFCLK1P_114, AG1 MGTHTXN3_114, AG2 MGTHTXP3_114, AG5 MGTHRXN0_114, AG6 MGTHRXP0_114, AH3 MGTHTXN2_114, AH4 MGTHTXP2_114, AH7 MGTREFCLK0N_113, AH8 MGTREFCLK0P_113, AJ1 MGTHTXN1_114, AJ2 MGTHTXP1_114, AJ5 MGTHRXN3_113, AJ6 MGTHRXP3_113, AK3 MGTHTXN0_114, AK4 MGTHTXP0_114, AK7 MGTREFCLK1N_113, AK8 MGTREFCLK1P_113, AL1 MGTHTXN3_113, AL2 MGTHTXP3_113, AL5 MGTHRXN2_113, AL6 MGTHRXP2_113, AM3 MGTHTXN2_113, AM4 MGTHTXP2_113, AM7 MGTHRXN1_113, AM8 MGTHRXP1_113, AN1 MGTHTXN1_113, AN2 MGTHTXP1_113, AN5 MGTHRXN0_113, AN6 MGTHRXP0_113, AP3 MGTHTXN0_113, AP4 MGTHTXP0_113
part L pins: AA1 MGTHTXN2_115, AA2 MGTHTXP2_115, AA5 MGTHRXN2_115, AA6 MGTHRXP2_115, AB3 MGTHRXN1_115, AB4 MGTHRXP1_115, AB7 MGTREFCLK1N_115, AB8 MGTREFCLK1P_115, AC1 MGTHTXN1_115, AC2 MGTHTXP1_115, AC5 MGTHRXN0_115, AC6 MGTHRXP0_115, AE1 MGTHTXN0_115, AE2 MGTHTXP0_115, P3 MGTHTXN3_116, P4 MGTHTXP3_116, R1 MGTHTXN2_116, R2 MGTHTXP2_116, R5 MGTHRXN3_116, R6 MGTHRXP3_116, T3 MGTHTXN1_116, T4 MGTHTXP1_116, T7 MGTREFCLK0N_116, T8 MGTREFCLK0P_116, U1 MGTHTXN0_116, U2 MGTHTXP0_116, U5 MGTHRXN2_116, U6 MGTHRXP2_116, V3 MGTHRXN1_116, V4 MGTHRXP1_116, V7 MGTREFCLK1N_116, V8 MGTREFCLK1P_116, W1 MGTHTXN3_115, W2 MGTHTXP3_115, W5 MGTHRXN0_116, W6 MGTHRXP0_116, Y3 MGTHRXN3_115, Y4 MGTHRXP3_115, Y7 MGTREFCLK0N_115, Y8 MGTREFCLK0P_115
part M pins: E5 MGTHRXN3_118, E6 MGTHRXP3_118, E9 MGTREFCLK0N_118, E10 MGTREFCLK0P_118, F3 MGTHTXN3_118, F4 MGTHTXP3_118, F7 MGTHRXN2_118, F8 MGTHRXP2_118, G1 MGTHTXN2_118, G2 MGTHTXP2_118, G5 MGTHRXN1_118, G6 MGTHRXP1_118, G9 MGTREFCLK1N_118, G10 MGTREFCLK1P_118, H3 MGTHTXN1_118, H4 MGTHTXP1_118, H7 MGTHRXN0_118, H8 MGTHRXP0_118, J1 MGTHTXN0_118, J2 MGTHTXP0_118, J5 MGTHRXN3_117, J6 MGTHRXP3_117, K3 MGTHTXN3_117, K4 MGTHTXP3_117, K7 MGTREFCLK0N_117, K8 MGTREFCLK0P_117, L1 MGTHTXN2_117, L2 MGTHTXP2_117, L5 MGTHRXN2_117, L6 MGTHRXP2_117, M3 MGTHTXN1_117, M4 MGTHTXP1_117, M7 MGTREFCLK1N_117, M8 MGTREFCLK1P_117, N1 MGTHTXN0_117, N2 MGTHTXP0_117, N5 MGTHRXN1_117, N6 MGTHRXP1_117, P7 MGTHRXN0_117, P8 MGTHRXP0_117
part N pins: A5 MGTHRXN3_119, A6 MGTHRXP3_119, A9 MGTREFCLK0N_119, A10 MGTREFCLK0P_119, B3 MGTHTXN3_119, B4 MGTHTXP3_119, B7 MGTHRXN2_119, B8 MGTHRXP2_119, C1 MGTHTXN2_119, C2 MGTHTXP2_119, C5 MGTHRXN1_119, C6 MGTHRXP1_119, C9 MGTREFCLK1N_119, C10 MGTREFCLK1P_119, D3 MGTHTXN1_119, D4 MGTHTXP1_119, D7 MGTHRXN0_119, D8 MGTHRXP0_119, E1 MGTHTXN0_119, E2 MGTHTXP0_119
part O pins: A12 MGTAVTTRCAL_115, AA4 MGTAVTT_G10, AA8 MGTAVCC_G10, AC4 MGTAVTT_G10, AC8 MGTAVCC_G10, AE4 MGTAVTT_G10, AE8 MGTAVCC_G10, AJ4 MGTAVTT_G10, AJ8 MGTAVCC_G10, AL4 MGTAVTT_G10, AL8 MGTAVCC_G10, AM6 MGTAVTT_G10, AN4 MGTAVTT_G10, AN8 MGTAVCC_G10, AP6 MGTAVTT_G10, AR4 MGTAVTT_G10, AR8 MGTAVCC_G10, AU4 MGTAVTT_G10, AU8 MGTAVCC_G10, AV6 MGTAVTT_G10, AW4 MGTAVTT_G10, AW8 MGTAVCC_G10, AY6 MGTAVTT_G10, B6 MGTAVTT_G11, B11 MGTRREF_115, BA4 MGTAVTT_G10, BA8 MGTAVCC_G10, C4 MGTAVTT_G11, C8 MGTAVCC_G11, D6 MGTAVTT_G11, E4 MGTAVTT_G11, E8 MGTAVCC_G11, F6 MGTAVTT_G11, G4 MGTAVTT_G11, G8 MGTAVCC_G11, H6 MGTAVTT_G11, J4 MGTAVTT_G11, J8 MGTAVCC_G11, L4 MGTAVTT_G11, L8 MGTAVCC_G11, N4 MGTAVTT_G11, N8 MGTVCCAUX_G11, P6 MGTAVTT_G11, R4 MGTAVTT_G10, R8 MGTVCCAUX_G10, U8 MGTVCCAUX_G10, W4 MGTAVTT_G10, W8 MGTAVCC_G10
part P pins: AA20 VREFN_0, AA21 VP_0, AB20 VN_0, AB21 VREFP_0, AC20 DXN_0, AC21 DXP_0, AG11 INIT_B_0, AH10 CFGBVS_0, AJ10 M2_0, AJ11 PROGRAM_B_0, AK10 M1_0, AL10 M0_0, AL11 DONE_0, M10 VCCO_0, N10 CCLK_0, P10 TCK_0, P11 TMS_0, R10 TDO_0, T10 TDI_0, T11 VCCO_0
part Q pins: A2 GND, A3 GND, A4 GND, A7 GND, A8 GND, A11 GND, A13 GND, A18 GND, A28 GND, A38 GND, AA10 VCCINT, AA12 VCCINT, AA14 VCCINT, AA16 VCCINT, AA18 VCCAUX_IO_G4, AA22 VCCBRAM, AA24 VCCINT, AA26 VCCAUX, AA28 VCCINT, AB11 VCCINT, AB13 VCCINT, AB15 VCCINT, AB17 VCCAUX, AB19 VCCINT, AB23 VCCINT, AB25 VCCAUX_IO_G1, AB27 VCCINT, AC12 VCCINT, AC14 VCCINT, AC16 VCCINT, AC18 VCCAUX_IO_G4, AC22 VCCBRAM, AC24 VCCINT, AC26 VCCAUX, AC28 VCCINT, AD11 VCCINT, AD13 VCCINT, AD15 VCCINT, AD17 VCCAUX, AD19 VCCINT, AD21 VCCINT, AD23 VCCINT, AD25 VCCAUX_IO_G1, AD27 VCCINT, AE10 VCCINT, AE12 VCCINT, AE14 VCCINT, AE16 VCCINT, AE18 VCCAUX_IO_G3, AE20 VCCINT, AE22 VCCBRAM, AE24 VCCINT, AE26 VCCAUX, AE28 VCCINT, AF11 VCCINT, AF13 VCCINT, AF15 VCCINT, AF17 VCCAUX, AF19 VCCAUX_IO_G3, AF21 VCCINT, AF23 VCCINT, AF25 VCCAUX_IO_G0, AF27 VCCINT, AG12 VCCINT, AG14 VCCINT, AG16 VCCINT, AG18 VCCAUX_IO_G3, AG20 VCCINT, AG22 VCCBRAM, AG24 VCCINT, AG26 VCCAUX, AG28 VCCINT, AH11 VCCINT, AH13 VCCINT, AH15 VCCINT, AH19 VCCINT, AH21 VCCBRAM, AH23 VCCINT, AH25 VCCAUX_IO_G0, AH27 VCCINT, B1 GND, B2 GND, B5 GND, B9 GND, B10 GND, B12 GND, B13 GND, B15 GND, B25 GND, B35 GND, C3 GND, C7 GND, C11 GND, C12 GND, C22 GND, C32 GND, C42 GND, D1 GND, D2 GND, D5 GND, D9 GND, D10 GND, D11 GND, D19 GND, D29 GND, D39 GND, E3 GND, E7 GND, E11 GND, E16 GND, E26 GND, E36 GND, F1 GND, F2 GND, F5 GND, F9 GND, F10 GND, F11 GND, F13 GND, F23 GND, F33 GND, G3 GND, G7 GND, G11 GND, G20 GND, G30 GND, G40 GND, H1 GND, H2 GND, H5 GND, H9 GND, H10 GND, H11 GND, H17 GND, H27 GND, H37 GND, J3 GND, J7 GND, J9 GND, J10 GND, J14 GND, J24 GND, J34 GND, K1 GND, K2 GND, K5 GND, K6 GND, K9 GND, K10 GND, K11 GND, K21 GND, K31 GND, K41 GND, L3 GND, L7 GND, L9 GND, L10 GND, L18 GND, L28 GND, L38 GND, M1 GND, M2 GND, M5 GND, M6 GND, M9 GND, M15 GND, M25 GND, M35 GND, N3 GND, N7 GND, N11 VCCBATT_0, P13 VCCINT, P15 VCCINT, P27 VCCINT, R12 VCCINT, R14 VCCINT, R16 VCCINT, R18 VCCAUX_IO_G5, R20 VCCINT, R22 VCCBRAM, R24 VCCINT, R26 VCCAUX_IO_G2, T13 VCCINT, T15 VCCINT, T17 VCCAUX, T19 VCCAUX_IO_G5, T21 VCCINT, T23 VCCINT, T25 VCCAUX_IO_G2, T27 VCCINT, U12 VCCINT, U14 VCCINT, U16 VCCINT, U18 VCCAUX_IO_G5, U20 VCCINT, U22 VCCBRAM, U24 VCCINT, U26 VCCAUX, V11 VCCINT, V13 VCCINT, V15 VCCINT, V17 VCCAUX, V19 VCCINT, V21 VCCINT, V23 VCCINT, V25 VCCAUX_IO_G2, V27 VCCINT, W12 VCCINT, W14 VCCINT, W16 VCCINT, W18 VCCAUX_IO_G4, W20 VCCINT, W22 VCCBRAM, W24 VCCINT, W26 VCCAUX, W28 VCCINT, Y11 VCCINT, Y13 VCCINT, Y15 VCCINT, Y17 VCCAUX, Y19 VCCINT, Y20 GNDADC_0, Y21 VCCADC_0, Y23 VCCINT, Y25 VCCAUX_IO_G1, Y27 VCCINT
part R pins: AA3 GND, AA7 GND, AA9 GND, AA11 GND, AA13 GND, AA15 GND, AA17 GND, AA19 GND, AA23 GND, AA25 GND, AA27 GND, AA38 GND, AB1 GND, AB2 GND, AB5 GND, AB6 GND, AB9 GND, AB10 GND, AB12 GND, AB14 GND, AB16 GND, AB18 GND, AB22 GND, AB24 GND, AB26 GND, AB28 GND, AB35 GND, AC3 GND, AC7 GND, AC11 GND, AC13 GND, AC15 GND, AC17 GND, AC19 GND, AC23 GND, AC25 GND, AC27 GND, AC32 GND, AC42 GND, AD1 GND, AD2 GND, AD5 GND, AD6 GND, AD9 GND, AD10 GND, AD12 GND, AD14 GND, AD16 GND, AD18 GND, AD20 GND, AD22 GND, AD24 GND, AD26 GND, AD28 GND, AD29 GND, AD39 GND, AE3 GND, AE7 GND, AE9 GND, AE11 GND, AE13 GND, AE15 GND, AE17 GND, AE19 GND, AE21 GND, AE23 GND, AE25 GND, AE27 GND, AE36 GND, AF1 GND, AF2 GND, AF5 GND, AF6 GND, AF9 GND, AF10 GND, AF12 GND, AF14 GND, AF16 GND, AF18 GND, AF20 GND, AF22 GND, AF24 GND, AF26 GND, AF33 GND, AG3 GND, AG4 GND, AG7 GND, AG8 GND, AG9 GND, AG10 GND, AG13 GND, AG15 GND, AG17 GND, AG19 GND, AG21 GND, AG23 GND, AG25 GND, AG27 GND, AG30 GND, AG40 GND, AH1 GND, AH2 GND, AH5 GND, AH6 GND, AH9 GND, AH12 GND, AH14 GND, AH16 GND, AH17 GND, AH18 GND, AH20 GND, AH22 GND, AH24 GND, AH26 GND, AH37 GND, AJ3 GND, AJ7 GND, AJ9 GND, AJ14 GND, AJ24 GND, AJ27 GND, AJ34 GND, AK1 GND, AK2 GND, AK5 GND, AK6 GND, AK9 GND, AK11 GND, AK21 GND, AK31 GND, AK41 GND, AL3 GND, AL7 GND, AL9 GND, AL18 GND, AL28 GND, AL38 GND, AM1 GND, AM2 GND, AM5 GND, AM9 GND, AM10 GND, AM15 GND, AM25 GND, AM35 GND, AN3 GND, AN7 GND, AN9 GND, AN10 GND, AN12 GND, AN22 GND, AN32 GND, AN42 GND, AP1 GND, AP2 GND, AP5 GND, AP9 GND, AP10 GND, AP19 GND, AP29 GND, AP39 GND, AR3 GND, AR7 GND, AR9 GND, AR10 GND, AR16 GND, AR26 GND, AR36 GND, AT1 GND, AT2 GND, AT5 GND, AT6 GND, AT9 GND, AT10 GND, AT11 GND, AT13 GND, AT23 GND, AT33 GND, AU3 GND, AU7 GND, AU11 GND, AU20 GND, AU30 GND, AU40 GND, AV1 GND, AV2 GND, AV5 GND, AV9 GND, AV10 GND, AV11 GND, AV17 GND, AV27 GND, AV37 GND, AW3 GND, AW7 GND, AW11 GND, AW14 GND, AW24 GND, AW34 GND, AY1 GND, AY2 GND, N9 GND, N12 GND, N22 GND, N32 GND, N42 GND, P1 GND, P2 GND, P5 GND, P9 GND, P12 GND, P16 GND, P19 GND, P29 GND, P39 GND, R3 GND, R7 GND, R9 GND, R11 GND, R13 GND, R15 GND, R17 GND, R19 GND, R21 GND, R23 GND, R25 GND, R27 GND, R36 GND, T1 GND, T2 GND, T5 GND, T6 GND, T9 GND, T12 GND, T14 GND, T16 GND, T18 GND, T20 GND, T22 GND, T24 GND, T26 GND, T33 GND, U3 GND, U4 GND, U7 GND, U9 GND, U10 GND, U11 GND, U13 GND, U15 GND, U17 GND, U19 GND, U21 GND, U23 GND, U25 GND, U27 GND, U30 GND, U40 GND, V1 GND, V2 GND, V5 GND, V6 GND, V9 GND, V10 GND, V12 GND, V14 GND, V16 GND, V18 GND, V20 GND, V22 GND, V24 GND, V26 GND, V28 GND, V37 GND, W3 GND, W7 GND, W11 GND, W13 GND, W15 GND, W17 GND, W19 GND, W21 GND, W23 GND, W25 GND, W27 GND, W34 GND, Y1 GND, Y2 GND, Y5 GND, Y6 GND, Y9 GND, Y10 GND, Y12 GND, Y14 GND, Y16 GND, Y18 GND, Y22 GND, Y24 GND, Y26 GND, Y28 GND, Y31 GND, Y41 GND
part S pins: AY5 GND, AY9 GND, AY10 GND, AY11 GND, AY21 GND, AY31 GND, AY41 GND, BA3 GND, BA7 GND, BA11 GND, BA18 GND, BA28 GND, BA38 GND, BB2 GND, BB5 GND, BB6 GND, BB9 GND, BB10 GND, BB11 GND, BB15 GND, BB25 GND, BB35 GND

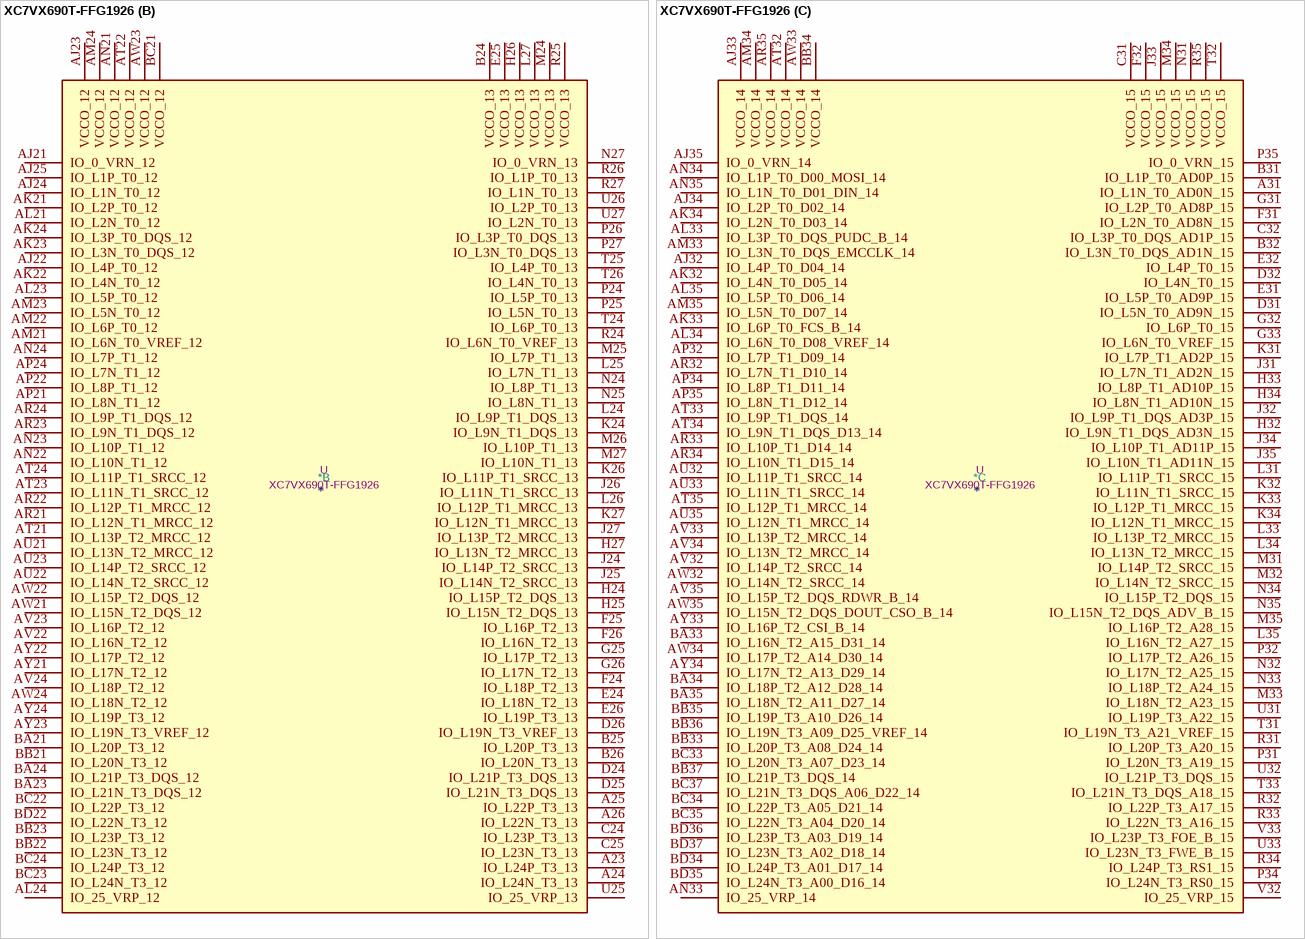
[diagram p121: symbol XC7VX690T-FFG1926]

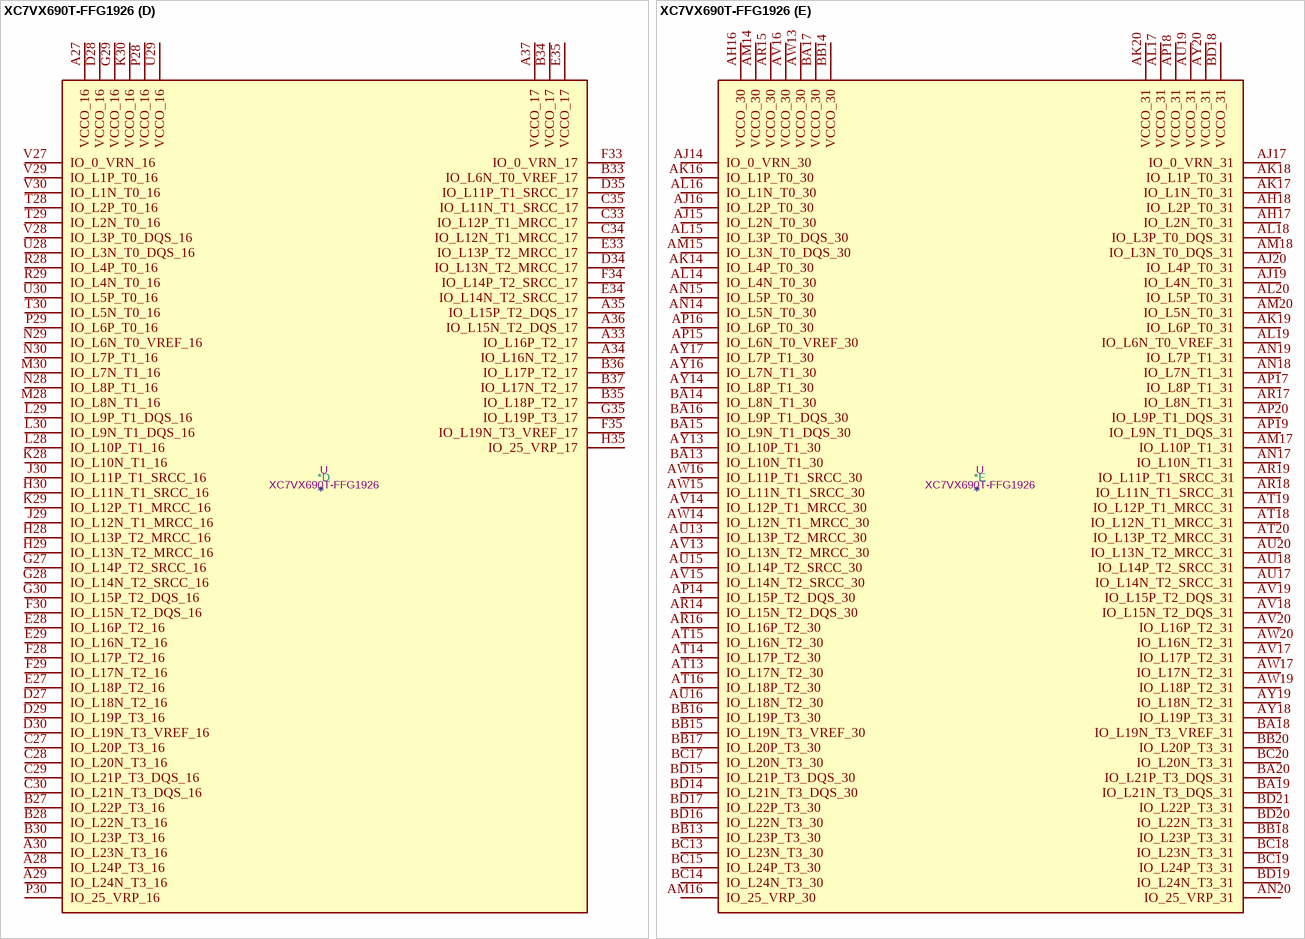
[diagram p122: symbol XC7VX690T-FFG1926]

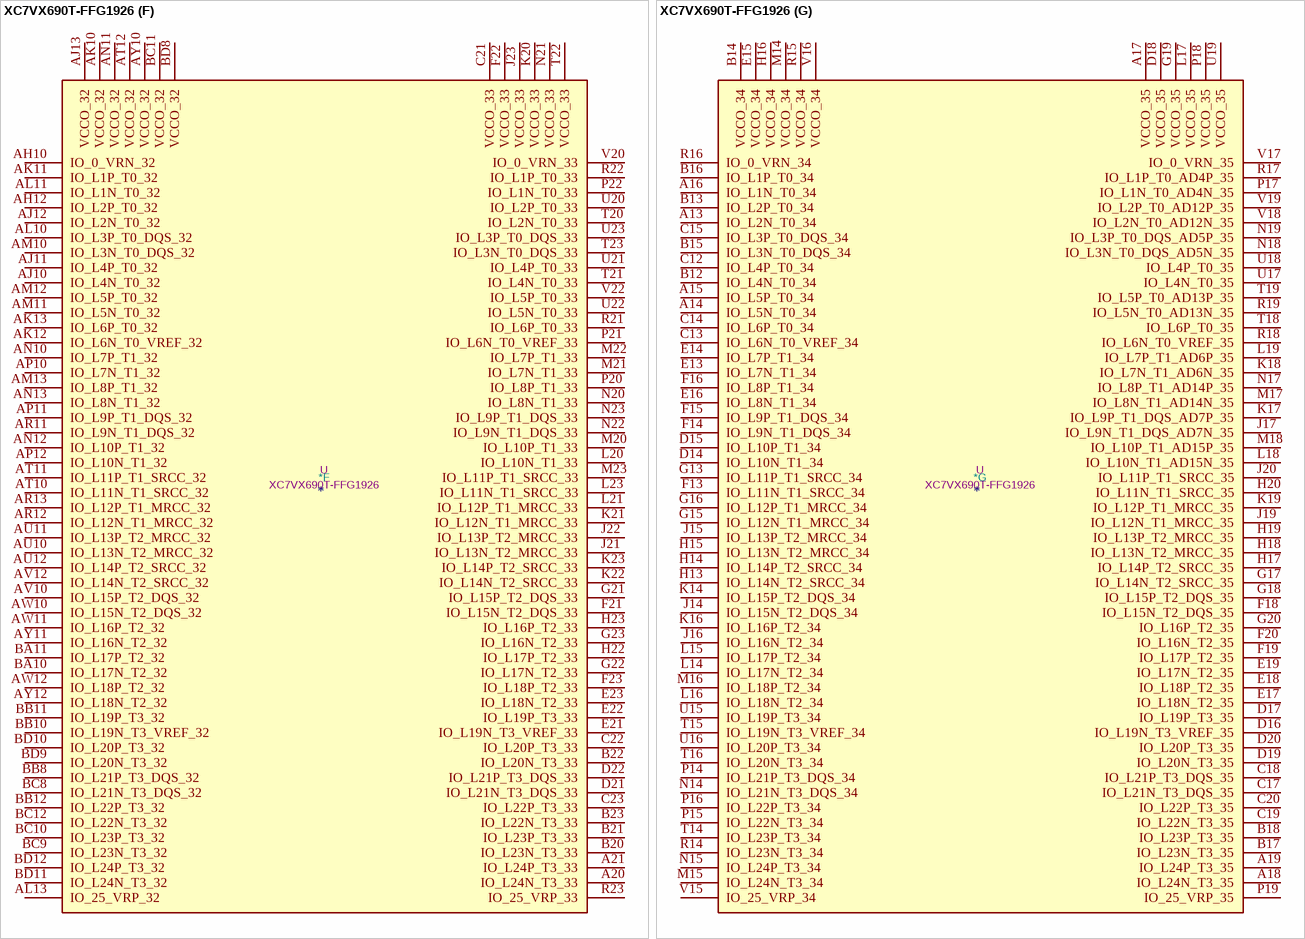
[diagram p123: symbol XC7VX690T-FFG1926]

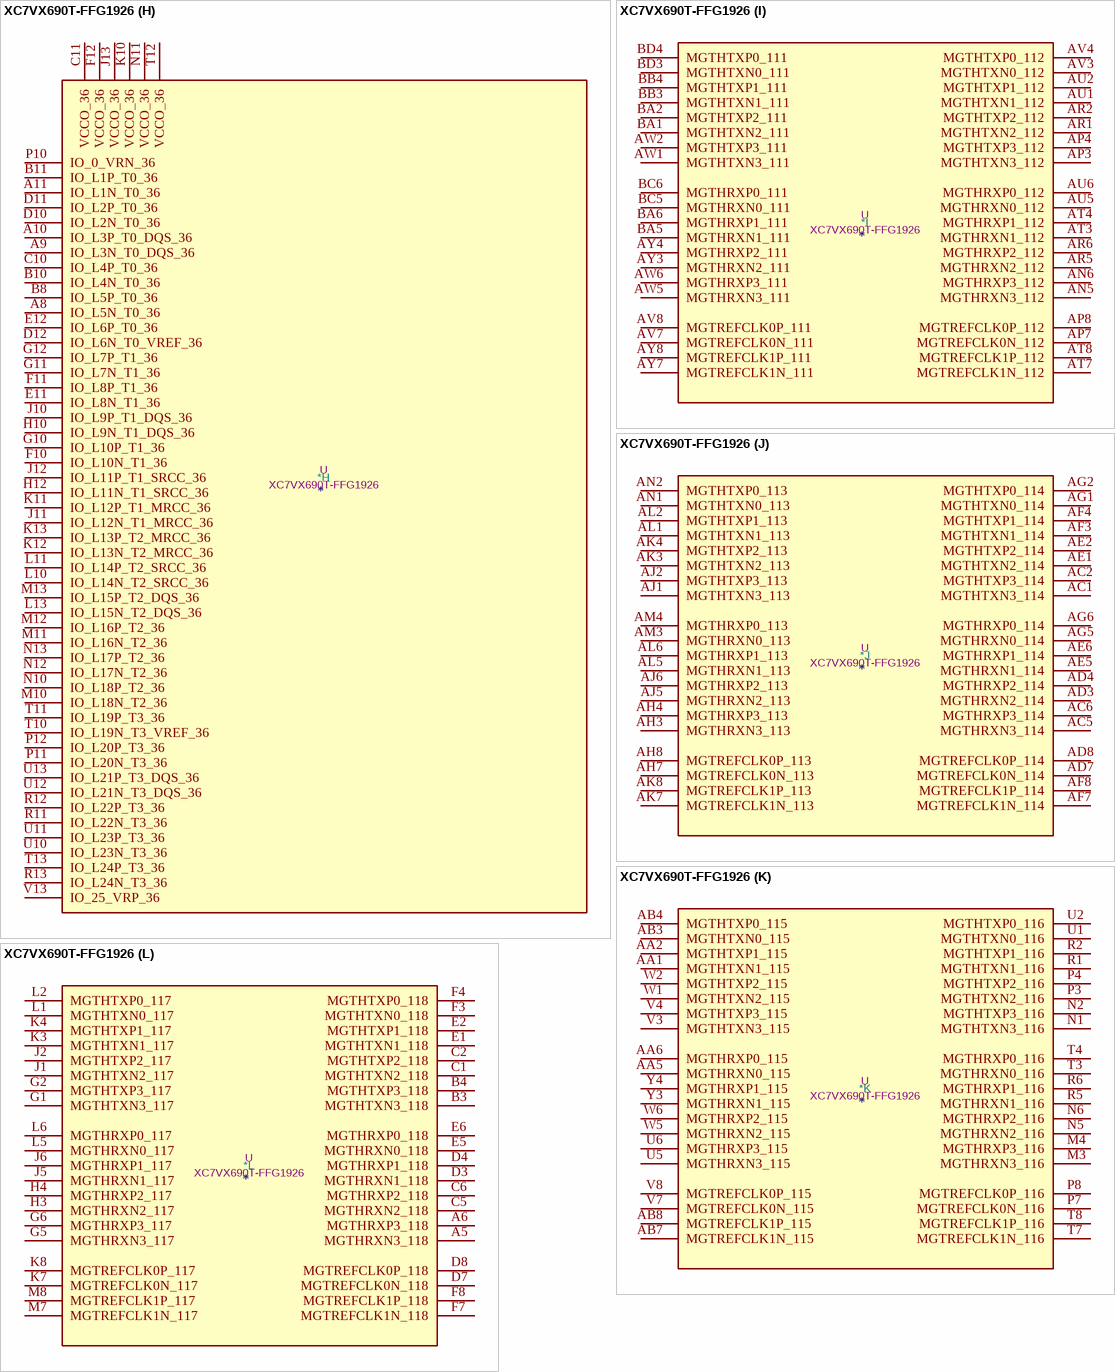
[diagram p124: symbol XC7VX690T-FFG1926]

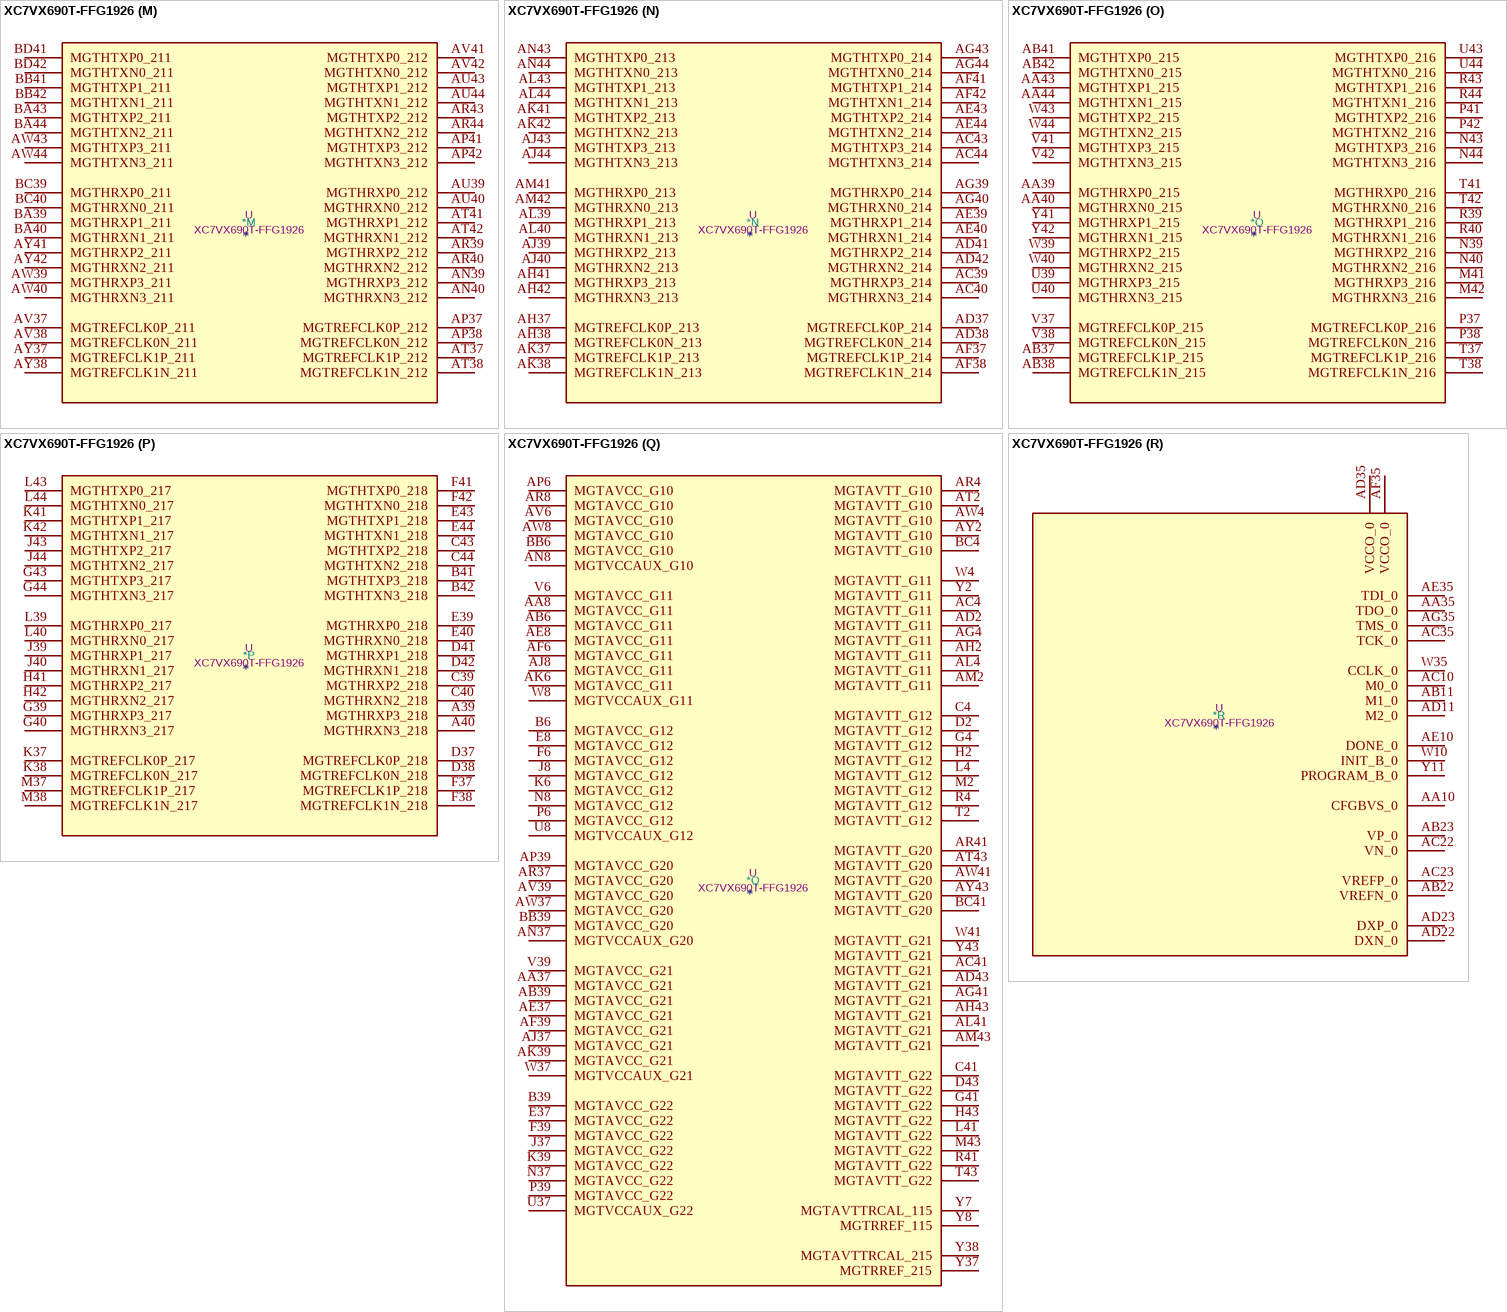
[diagram p125: symbol XC7VX690T-FFG1926]

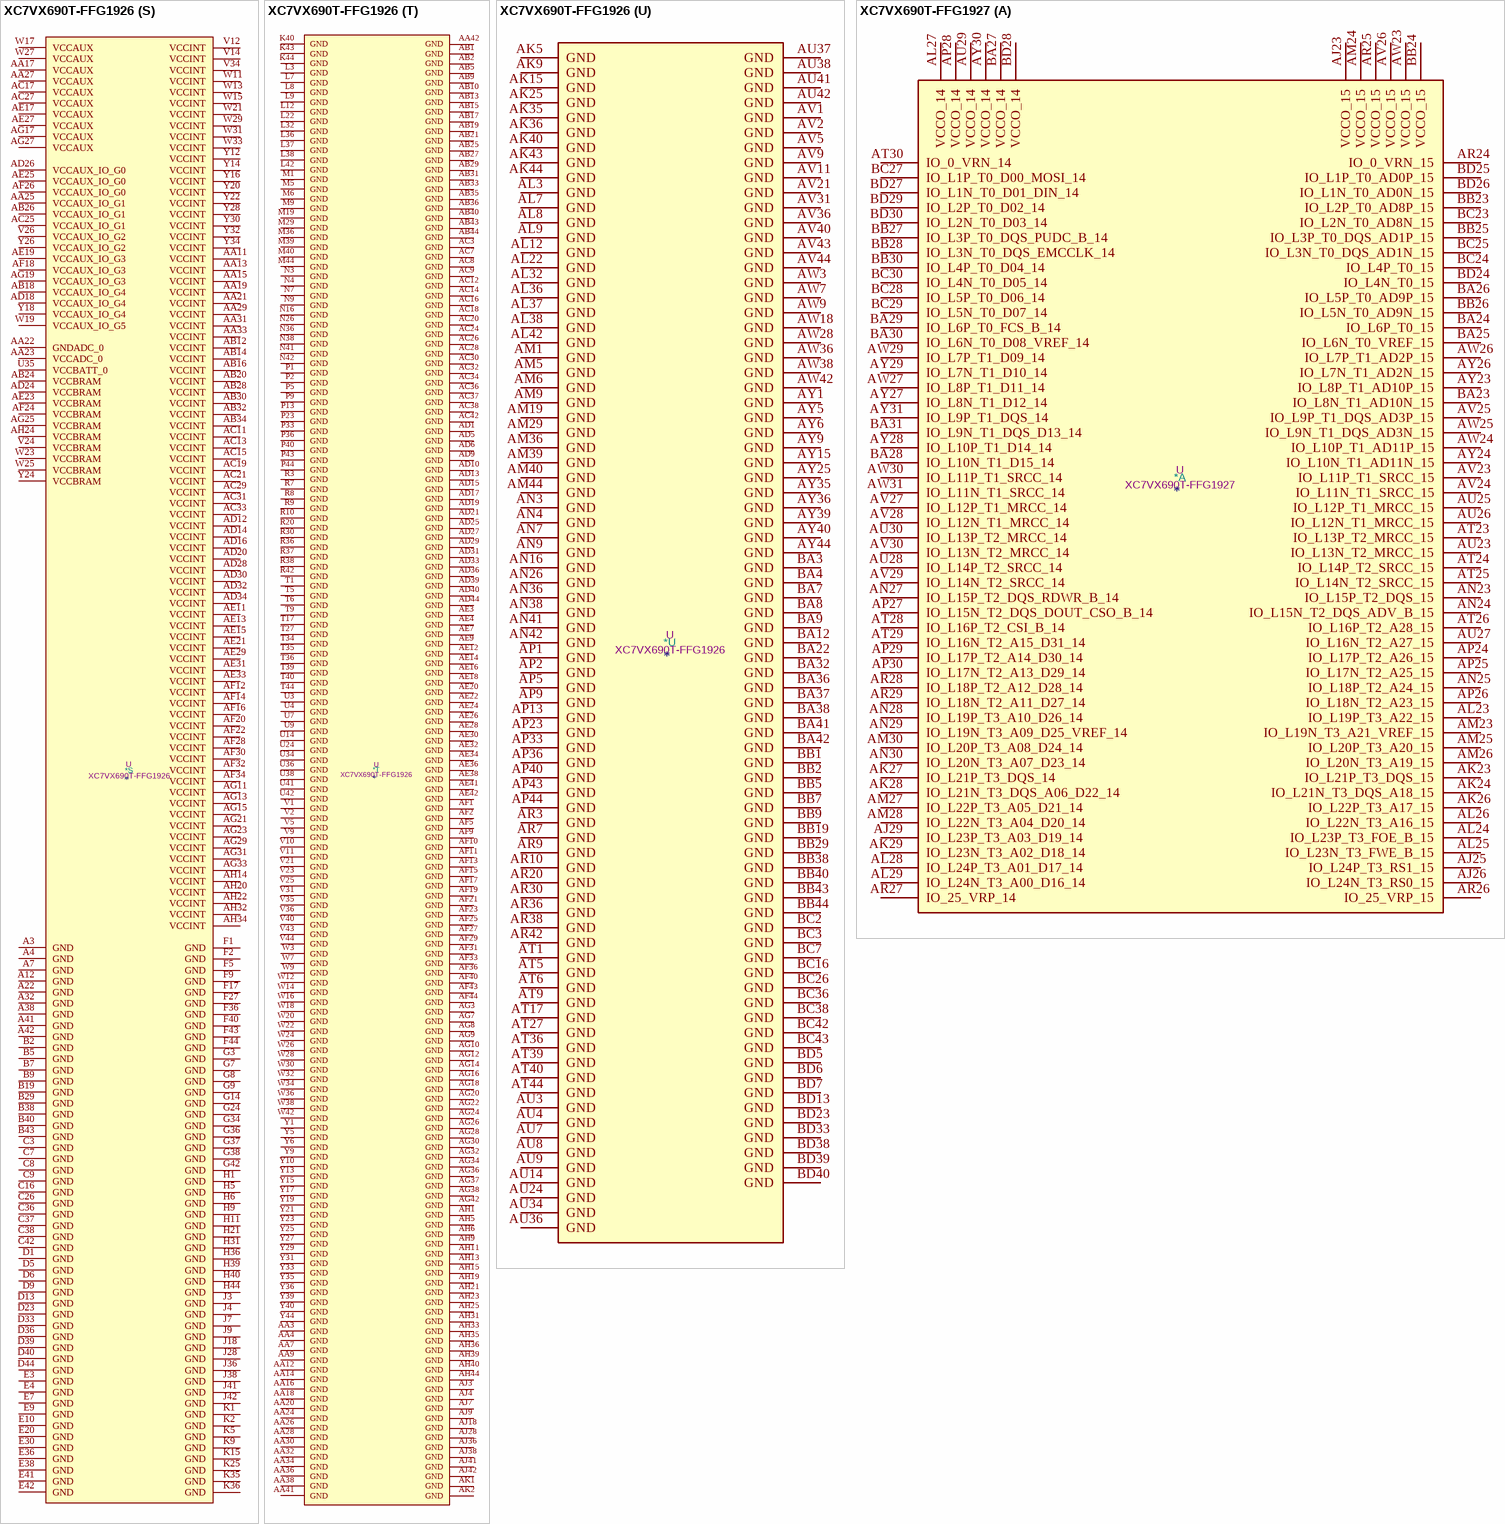
[diagram p126: symbols XC7VX690T-FFG1926 to XC7VX690T-FFG1927]